# Altium footprint library 10n.PcbLib: 4 footprints
Each footprint in its own frame and in the unit in brackets; x right, y up, seen from the top. Pads: shape width x height; smd on the part's side, far side on the other; paste and mask are expansions set on the pad; w line width, h text height; cw(c..) or ccw(c..) is an arc to the next point about the centre after c.
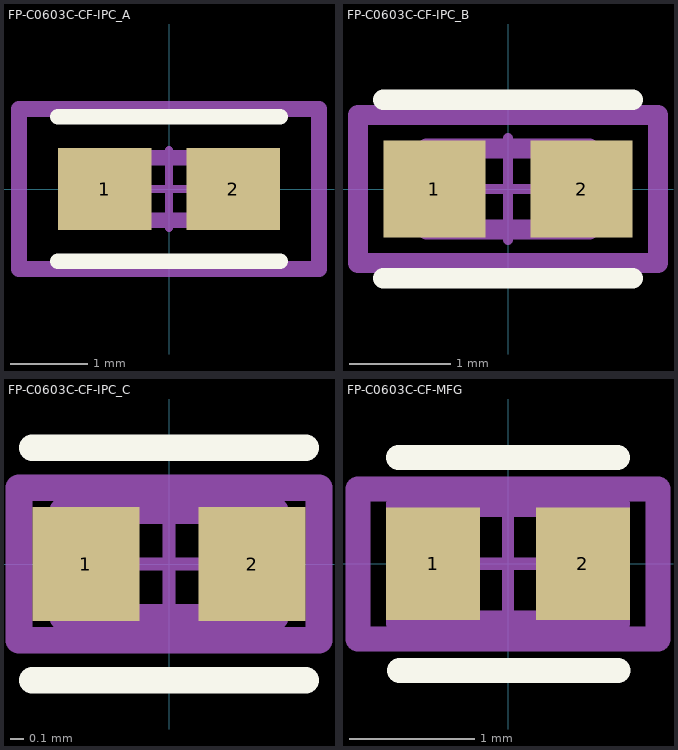
[diagram p0: the footprints below, top view; thin cyan lines are the x and y axes]

## FP-C0603C-CF-IPC_A [mil]
pads (2):
  rect 47.5x41.66 smd paste+0 mask+0: 1(-32.51,0) 2(32.51,0)
Top Overlay:
  lines w7.87: -56.26,-36.58 56.26,-36.58 ; -56.26,36.58 56.26,36.58
Mechanical 5:
  lines w7.87: -75.95,-40.52 75.95,-40.52 75.95,40.52 -75.95,40.52 -75.95,-40.52
  text ".Designator" at 0,7.39 h39.37
Mechanical 13:
  lines w7.87: -31.5,-15.75 31.5,-15.75 31.5,15.75 -31.5,15.75 -31.5,-15.75
Mechanical 15:
  lines w7.87: -75.95,-40.52 75.95,-40.52 75.95,40.52 -75.95,40.52 -75.95,-40.52
Mechanical 16:
  lines w3.94: -19.68,0 19.68,0 ; 0,-19.68 0,19.68
3D body "Cap_KEMET_C0603C272M5JACTU_eec.STEP": height 10, standoff 0, extent -75.95,-40.52 75.95,40.52

## FP-C0603C-CF-IPC_B [mm]
pads (2):
  rect 1.007x0.958 smd paste+0 mask+0: 1(-0.726,0) 2(0.726,0)
Top Overlay:
  lines w0.2: -1.229,-0.879 1.229,-0.879 ; -1.229,0.879 1.229,0.879
Mechanical 5:
  lines w0.2: -1.479,-0.729 1.479,-0.729 1.479,0.729 -1.479,0.729 -1.479,-0.729
  text ".Designator" at 0,0.188 h1
Mechanical 13:
  lines w0.2: -0.8,-0.4 0.8,-0.4 0.8,0.4 -0.8,0.4 -0.8,-0.4
Mechanical 15:
  lines w0.2: -1.479,-0.729 1.479,-0.729 1.479,0.729 -1.479,0.729 -1.479,-0.729
Mechanical 16:
  lines w0.1: -0.5,0 0.5,0 ; 0,-0.5 0,0.5
3D body "Cap_KEMET_C0603C272M5JACTU_eec.STEP": height 0.25, standoff 0, extent -1.479,-0.729 1.479,0.729

## FP-C0603C-CF-IPC_C [mm]
pads (2):
  rect 0.807x0.858 smd paste+0 mask+0: 1(-0.626,0) 2(0.626,0)
Top Overlay:
  lines w0.2: -1.029,-0.875 1.029,-0.875 ; -1.029,0.875 1.029,0.875
Mechanical 5:
  lines w0.2: -1.129,-0.575 1.129,-0.575 1.129,0.575 -1.129,0.575 -1.129,-0.575
  text ".Designator" at 0,0.188 h1
Mechanical 13:
  lines w0.2: -0.8,-0.4 0.8,-0.4 0.8,0.4 -0.8,0.4 -0.8,-0.4
Mechanical 15:
  lines w0.2: -1.129,-0.575 1.129,-0.575 1.129,0.575 -1.129,0.575 -1.129,-0.575
Mechanical 16:
  lines w0.1: -0.5,0 0.5,0 ; 0,-0.5 0,0.5
3D body "Cap_KEMET_C0603C272M5JACTU_eec.STEP": height 0.25, standoff 0, extent -1.129,-0.575 1.129,0.575

## FP-C0603C-CF-MFG [mm]
pads (2):
  rect 0.75x0.9 smd paste+0 mask+0: 1(-0.6,0) 2(0.6,0)
Top Overlay:
  lines w0.2: -0.875,0.85 0.875,0.85 ; -0.87,-0.853 0.88,-0.853
Mechanical 5:
  lines w0.2: -1.2,-0.6 1.2,-0.6 1.2,0.6 -1.2,0.6 -1.2,-0.6
  text ".Designator" at 0,0.188 h1
Mechanical 13:
  lines w0.2: -0.875,-0.475 0.875,-0.475 0.875,0.475 -0.875,0.475 -0.875,-0.475
Mechanical 15:
  lines w0.2: -1.2,-0.6 1.2,-0.6 1.2,0.6 -1.2,0.6 -1.2,-0.6
Mechanical 16:
  lines w0.1: -0.5,0 0.5,0 ; 0,-0.5 0,0.5
3D body "Cap_KEMET_C0603C272M5JACTU_eec.STEP": height 0.25, standoff 0, extent -1.2,-0.6 1.2,0.6